# Altium schematic symbol library IPA032N06N3 G.SchLib: 1 symbol
Pins are listed as number, name and electrical type; pins without a type are passive.

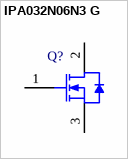
[diagram p0: symbol IPA032N06N3 G]

## IPA032N06N3 G
designator Q?
N-Channel OptiMOS 3 Power-Transistor, 60 V VDS, 84 A ID, -55 to 175 degC, PG-TO220-3-31, Tube, Green; Manufacturer: Infineon; PartNumber: IPA032N06N3 G; Green: TRUE; ID (max): 84 A; IDpuls (max): 336 A; Polarity: N; Ptot (max): 41 W; QG: 124 nC; RDS (on) (max): 3.2 mOhm; Rth: 3.7 K/W; VDS (max): 60 V; VGS(th) (max): 4 V; VGS(th) (min): 2 V; DatasheetVersion: Rev. 2.0; PackageVersion: Jan-07; PackageReference: PG-TO220-3-31; PackageDescription: 3-Pin Plastic (Green) Transistor Single Outline Package, 10.5 x 9.68 mm Body, 2.54 mm Pitch; Supplier 1: Digi-Key; Supplier Part Number 1: IPA032N06N3 G-ND; Supplier 2: Mouser; Supplier Part Number 2: 726-IPA032N06N3G; Halogen-free: TRUE; Packing: Tube; RthJC (max): 3.7 K/W; Mounting Technology: Through Hole; ComponentLink1Description: Manufacturer URL; ComponentLink1URL: http://www.infineon.com/; ComponentLink2Description: Datasheet; ComponentLink2URL: http://www.infineon.com/dgdl/IPA032N06N3_Rev2+0.pdf?folderId=db3a30431441fb5d01148ca9f1be0e77&fileId=db3a3043284aacd8012882aa847a5419; ComponentLink3Description: Package Specification; ComponentLink3URL: http://www.infineon.com/dgdl/IPA093N06N3_Rev2+0.pdf?folderId=db3a30431441fb5d01148ca9f1be0e77&fileId=db3a3043284aacd8012882bf84115438
footprint INF-PG-TO220-3-31 (FM, 3-Leads, Body 10.5x4.7mm, Pitch 2.54mm)
pins: 1 GATE, 2 DRAIN, 3 SOURCE